# EAGLE library part TCAN330GDR (library TCAN330GDR)
3.3-V CAN Transceivers with CAN FD (Flexible Data Rate) Source: Datasheet <http://www.ti.com/lit/gpn/TCAN330G>
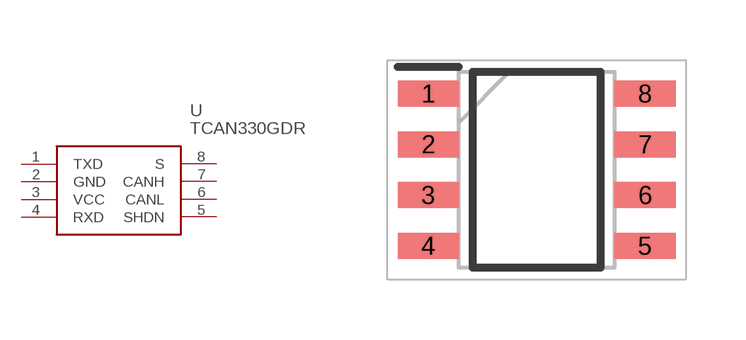
[diagram p0: symbol with the pads of SOIC127P600X175-8N; footprint SOIC127P600X175-8N]

Designator prefix U

## TCAN330GDR (Description: 3.3-V CAN Transceivers with CAN FD (Flexible Data Rate); Height: 1.75mm; Manufacturer_Name: Texas Instruments; Manufacturer_Part_Number: TCAN330GDR; Mouser_Part_Number: 595-TCAN330GDR; Mouser_Price-Stock: https://www.mouser.co.uk/ProductDetail/Texas-Instruments/TCAN330GDR?qs=9DwIlvx97adeWwzxdqwSPw%3D%3D)  [SOIC127P600X175-8N]
1  TXD  in
2  GND  pwr
3  VCC  pwr
4  RXD  out
5  SHDN
6  CANL
7  CANH
8  S

## Footprint SOIC127P600X175-8N (pad centres in mm)
SOIC (8)
smd 1.528 x 0.65: 1 -2.711,1.905; 2 -2.711,0.635; 3 -2.711,-0.635; 4 -2.711,-1.905; 5 2.711,-1.905; 6 2.711,-0.635; 7 2.711,0.635; 8 2.711,1.905